# Altium footprint library Sheet11.PCBLIB: 18 footprints (part 1 of 2)
Each footprint in its own frame and in the unit in brackets; x right, y up, seen from the top. Pads: shape width x height; smd on the part's side, far side on the other; paste and mask are expansions set on the pad; w line width, h text height; cw(c..) or ccw(c..) is an arc to the next point about the centre after c.
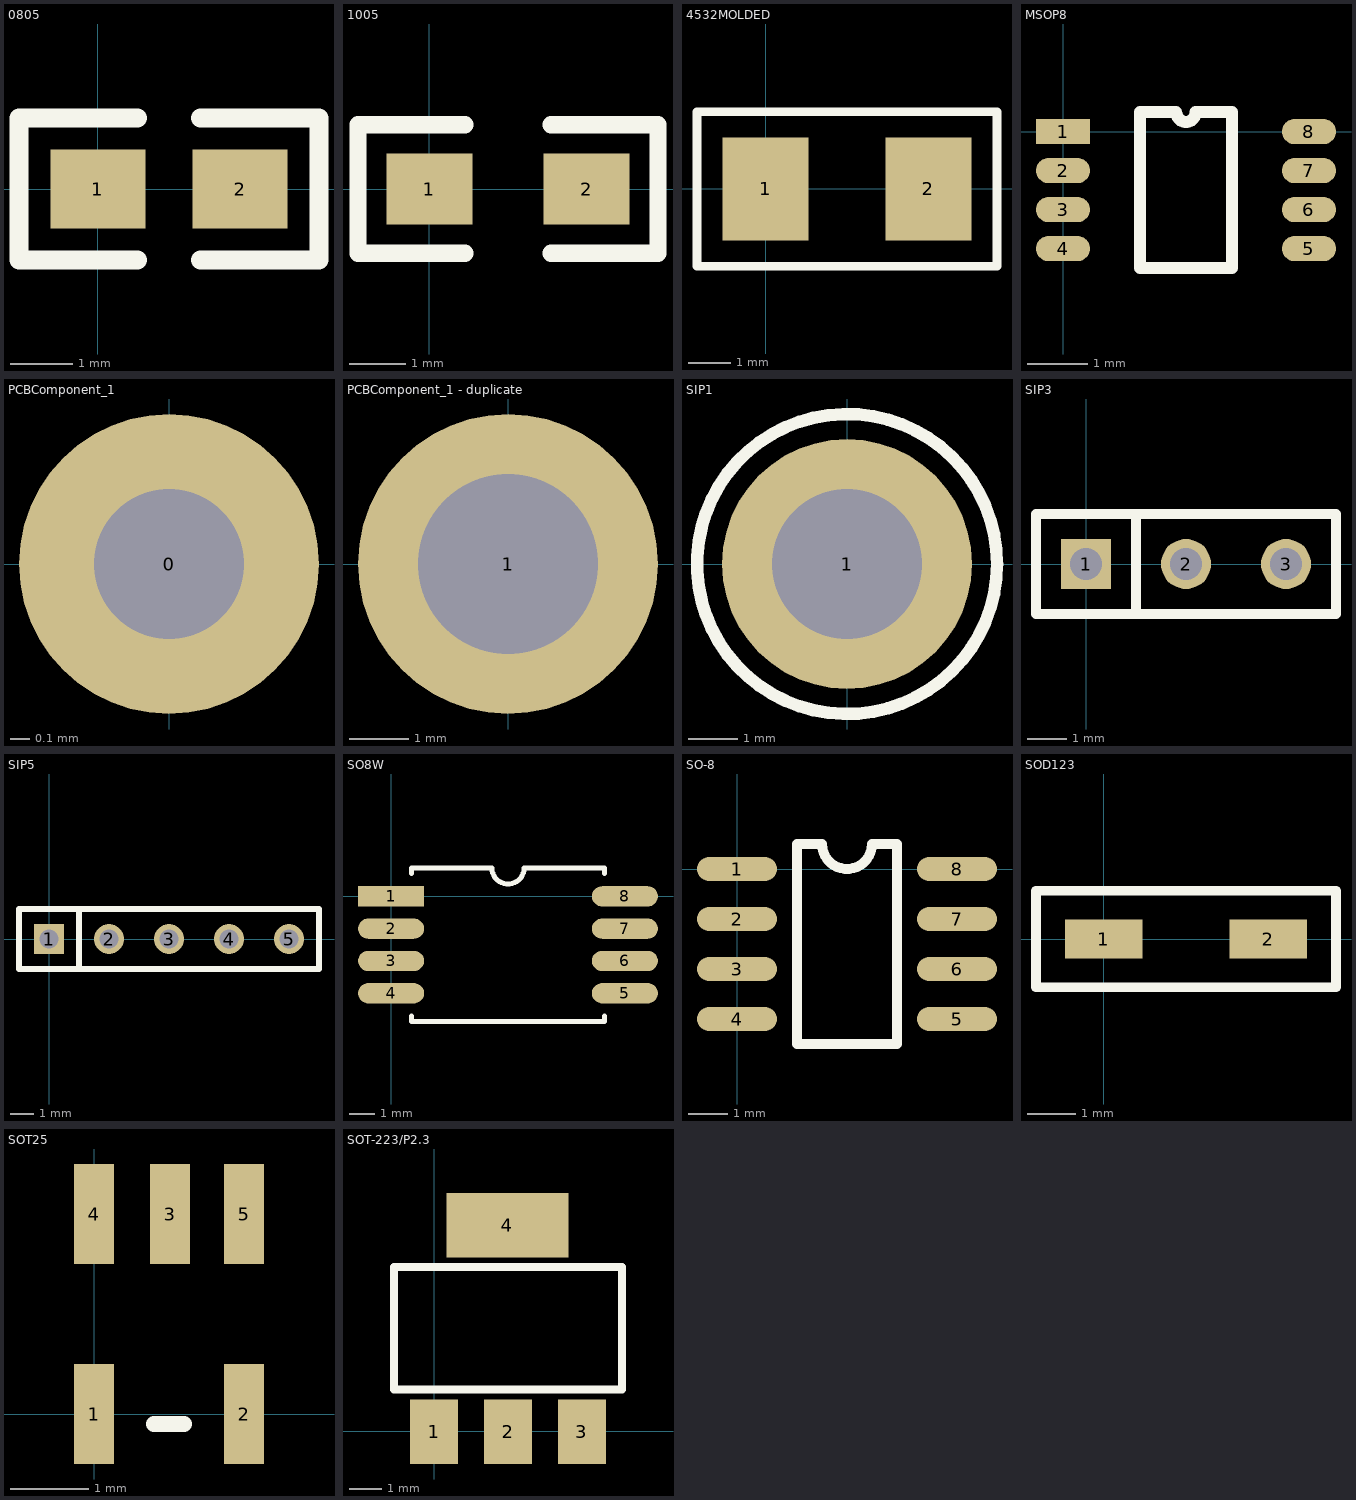
[diagram p0: the footprints below, top view; thin cyan lines are the x and y axes]

## 0805 [mil]
pads (2):
  rect 60x50 smd: 1(0,0) 2(90,0)
TopOverlay:
  lines w12: 25,-45 -50,-45 -50,45 25,45 ; 65,-45 140,-45 140,45 65,45

## 1005 [mil]
pads (2):
  rect 60x50 smd: 1(0,0) 2(110,0)
TopOverlay:
  lines w12: 25,-45 -50,-45 -50,45 25,45 ; 85,-45 160,-45 160,45 85,45

## 4532MOLDED [mm]
pads (2):
  rect 2x2.4 smd: 1(0,0) 2(3.8,0)
TopOverlay:
  lines w0.2: -1.6,-1.8 5.4,-1.8 5.4,1.8 -1.6,1.8 -1.6,-1.8

## MSOP8 [mm]
pads (8):
  rect 0.9x0.42 smd: 1(0,0)
  oval 0.9x0.42 smd: 2(0,-0.65) 3(0,-1.3) 4(0,-1.95) 5(4.1,-1.95) 6(4.1,-1.3) 7(4.1,-0.65) 8(4.1,0)
TopOverlay:
  lines w0.2: 1.285,-2.275 1.285,0.325 1.887,0.325 ccw(c2.05,0.325) 2.212,0.325 2.815,0.325 2.815,-2.275 1.285,-2.275

## PCBComponent_1 [mil]
pads (1):
  round 60 hole 30: 0(0,0)

## PCBComponent_1 - duplicate [mil]
pads (1):
  round 200 hole 120: 1(0,0)

## PCBComponent_1 - duplicate1 [mm]

## PCBComponent_1 - duplicate2 [mm]

## SIP1 [mil]
pads (1):
  round 200 hole 120: 1(0,0)
TopOverlay:
  circle w10: c0,0 r120

## SIP3 [mil]
pads (3):
  rect 50x50 hole 32: 1(0,0)
  round 50 hole 32: 2(100,0) 3(200,0)
TopOverlay:
  lines w10: 50,-50 50,50 ; -50,-50 250,-50 250,50 -50,50 -50,-50

## SIP5 [mil]
pads (5):
  rect 50x50 hole 32: 1(0,0)
  round 50 hole 32: 2(100,0) 3(200,0) 4(300,0) 5(400,0)
TopOverlay:
  lines w10: 50,-50 50,50 ; -50,-50 450,-50 450,50 -50,50 -50,-50

## SO8W [mm]
pads (8):
  rect 2.6x0.8 smd: 1(0,0)
  oval 2.6x0.8 smd: 2(0,-1.27) 3(0,-2.54) 4(0,-3.81) 5(9.2,-3.81) 6(9.2,-2.54) 7(9.2,-1.27) 8(9.2,0)
TopOverlay:
  lines w0.2: 0.8,-4.71 0.8,-4.93 8.4,-4.93 8.4,-4.71 ; 0.8,0.9 0.8,1.12 3.965,1.12 ccw(c4.6,1.12) 5.235,1.12 8.4,1.12 8.4,0.9

## SO-8 [mil]
pads (8):
  oval 80x24 smd: 1(0,0) 2(0,-50) 3(0,-100) 4(0,-150) 5(220,-150) 6(220,-100) 7(220,-50) 8(220,0)
TopOverlay:
  lines w10: 60,-175 160,-175 160,25 135,25 cw(c110,25) 85,25 60,25 60,-175

## SOD123 [mm]
pads (2):
  rect 1.6x0.8 smd: 1(0,0) 2(3.4,0)
TopOverlay:
  lines w0.2: -1.4,-1 -1.4,1 4.8,1 4.8,-1 -1.4,-1

## SOT25 [mil]
pads (5):
  rect 20x50 smd: 1(0,0) 2(75,0) 3(38,100) 4(0,100) 5(75,100)
TopOverlay:
  lines w7.87: 30,-5 45,-5

## SOT-223/P2.3 [mil]
pads (4):
  rect 59x79 smd: 1(0,-0.45) 2(90.55,-0.45) 3(181.1,-0.45)
  rect 150x79 smd: 4(89.88,253.09)
TopOverlay:
  lines w10: -49.45,51.55 -49.45,201.55 230.55,201.55 230.55,51.55 -49.45,51.55